# EAGLE library part ST7FLIT19BF1B6 (library ST Microelctronics_By_element14_Batch_1)
8-BIT MCU
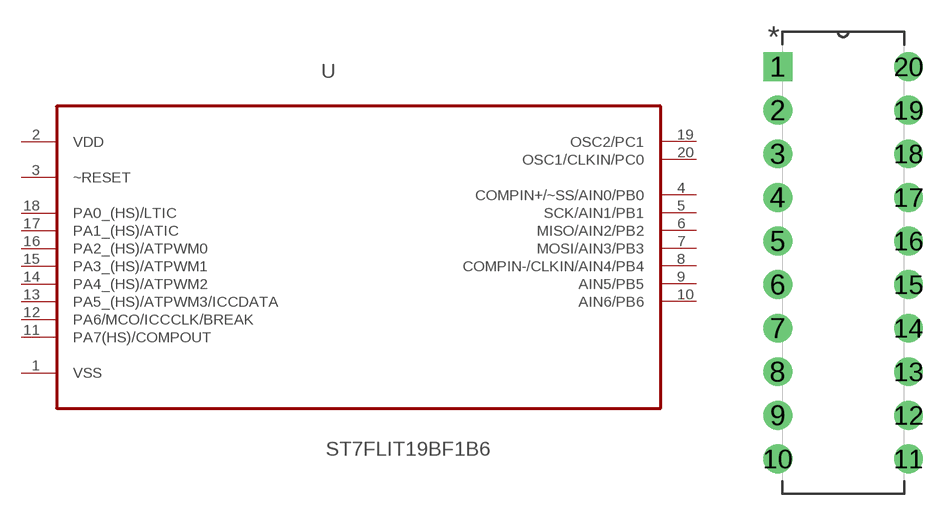
[diagram p313: symbol with the pads of DIP254P762X533-20; footprint DIP254P762X533-20]

Designator prefix U

## ST7FLIT19BF1B6 (MPN: ST7FLIT19BF1B6; OC_FARNELL: 1287281; OC_NEWARK: 57P2985; PACKAGE: DIP-20; SUPPLIER: STMICROELECTRONICS)  [DIP254P762X533-20]
1  VSS  pas
2  VDD  pwr
3  ~RESET
4  COMPIN+/~SS/AIN0/PB0
5  SCK/AIN1/PB1
6  MISO/AIN2/PB2
7  MOSI/AIN3/PB3
8  COMPIN-/CLKIN/AIN4/PB4
9  AIN5/PB5
10  AIN6/PB6
11  PA7(HS)/COMPOUT
12  PA6/MCO/ICCCLK/BREAK
13  PA5_(HS)/ATPWM3/ICCDATA
14  PA4_(HS)/ATPWM2
15  PA3_(HS)/ATPWM1
16  PA2_(HS)/ATPWM0
17  PA1_(HS)/ATIC
18  PA0_(HS)/LTIC
19  OSC2/PC1
20  OSC1/CLKIN/PC0

## Footprint DIP254P762X533-20 (pad centres in mm)
drill 1.118 square: 1 -7.62,22.86
drill 1.118: 2 -7.62,20.32; 3 -7.62,17.78; 4 -7.62,15.24; 5 -7.62,12.7; 6 -7.62,10.16; 7 -7.62,7.62; 8 -7.62,5.08; 9 -7.62,2.54; 10 -7.62,0; 11 0,0; 12 0,2.54; 13 0,5.08; 14 0,7.62; 15 0,10.16; 16 0,12.7; 17 0,15.24; 18 0,17.78; 19 0,20.32; 20 0,22.86